# Altium footprint library cf1961aa503ff0dccd933ce7e329bd49_408f2f55965c2cfac43d2e67a2621ab7_8.pcblib: 74 footprints (part 2 of 5)
Each footprint in its own frame and in the unit in brackets; x right, y up, seen from the top. Pads: shape width x height; smd on the part's side, far side on the other; paste and mask are expansions set on the pad; w line width, h text height; cw(c..) or ccw(c..) is an arc to the next point about the centre after c.
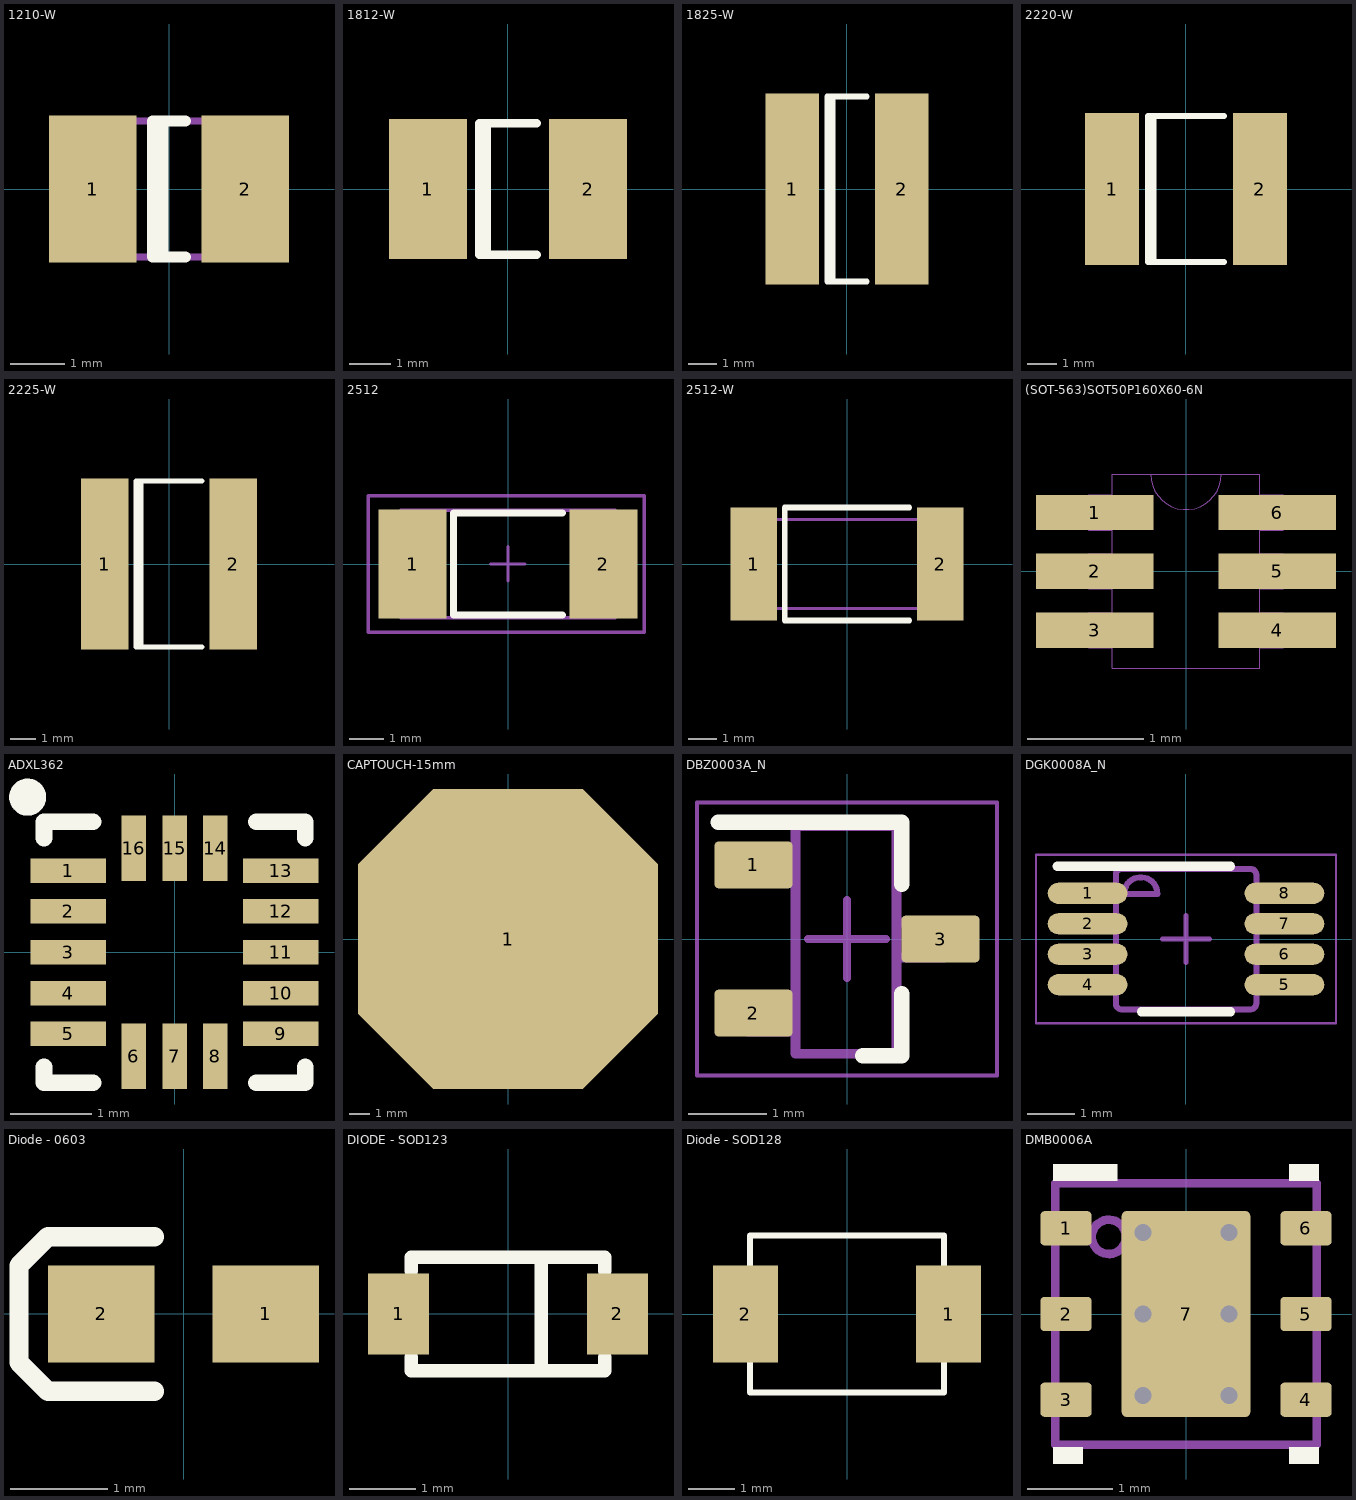
[diagram p1: the footprints below, top view; thin cyan lines are the x and y axes]

## 1210-W [mm] "Chip Capacitor; Body 3.2 x 2.5 mm (LxW typ)"
height 1.7
pads (2):
  rect 1.6x2.7 smd: 1(-1.4,0) 2(1.4,0)
Top Overlay:
  lines w0.2: -0.11,-1.25 -0.11,1.25 ; 0.3,-1.25 -0.3,-1.25 -0.3,1.25 0.3,1.25
Mechanical 13:
  lines w0.127: -1.6,-1.25 1.6,-1.25 1.6,1.25 -1.6,1.25 -1.6,-1.25
3D body: height 2.5, standoff 0, extent -1.6,-1.25 1.6,1.25

## 1812-W [mm] "Chip Capacitor; Body 4.5 x 3.2 mm (LxW typ)"
height 1.7
pads (2):
  rect 1.9x3.4 smd: 1(-1.95,0) 2(1.95,0)
Top Overlay:
  lines w0.2: -0.51,-1.6 -0.51,1.6 ; 0.7,-1.6 -0.7,-1.6 -0.7,1.6 0.7,1.6

## 1825-W [mm] "Chip Capacitor; Body 4.5 x 6.4 mm (LxW typ)"
height 1.7
pads (2):
  rect 1.9x6.8 smd: 1(-1.95,0) 2(1.95,0)
Top Overlay:
  lines w0.2: -0.51,-3.3 -0.51,3.3 ; 0.7,-3.3 -0.7,-3.3 -0.7,3.3 0.7,3.3

## 2220-W [mm] "Chip Capacitor; Body 5.7 x 5.0 mm (LxW typ)"
height 1.8
pads (2):
  rect 1.85x5.2 smd: 1(-2.525,0) 2(2.525,0)
Top Overlay:
  lines w0.2: -1.11,-2.5 -1.11,2.5 ; 1.3,-2.5 -1.3,-2.5 -1.3,2.5 1.3,2.5

## 2225-W [mm] "Chip Capacitor; Body 5.6 x 6.4 mm (LxW typ)"
height 2
pads (2):
  rect 1.9x6.8 smd: 1(-2.55,0) 2(2.55,0)
Top Overlay:
  lines w0.2: -1.11,-3.3 -1.11,3.3 ; 1.3,-3.3 -1.3,-3.3 -1.3,3.3 1.3,3.3

## 2512 [mm] "Chip Capacitor, Body 2.54x1.27mm, IPC Low Density"
height 0.6
pads (2):
  rect 2x3.2 smd: 1(-2.8,0) 2(2.8,0)
Top Overlay:
  lines w0.2: 1.6,-1.5 -1.6,-1.5 -1.6,1.5 1.6,1.5
Mechanical 13:
  lines w0.1: -3.15,-1.575 -3.15,1.575 3.15,1.575 3.15,-1.575 -3.15,-1.575
Mechanical 15:
  lines w0.1: -0.5,0 0.5,0 ; 0,-0.5 0,0.5 ; -4.1,-2 -4.1,2 4,2 4,-2 -4.1,-2
3D body: height 0.6, standoff 0, extent -3.15,-1.575 3.15,1.575

## 2512-W [mil]
height 82.68
pads (2):
  rect 65x158 smd: 1(-130,0) 2(130,0)
Top Overlay:
  lines w7.87: 86.54,-78.74 -86.69,-78.74 -86.69,78.74 86.54,78.74
Mechanical 13:
  lines w3.94: -124.01,-62 -124.01,62.01 124.02,62.01 124.02,-62 -124.01,-62
3D body: height 23.62, standoff 0, extent -124.01,-62 124.02,62.01

## (SOT-563)SOT50P160X60-6N [mil]
pads (6):
  rect 40x12 smd: 1(-31,20) 2(-31,0) 3(-31,-20) 4(31,-20) 5(31,0) 6(31,20)
Mechanical 13:
  lines w0: -25,-26 -25,-33 25,-33 25,-26 ; -25,-26 -25,-14 ; -25,-26 -33,-26 -33,-14 -25,-14 ; -25,-14 -25,-6 ; -25,-6 -25,6 ; -25,-6 -33,-6 -33,6 -25,6 ; -25,6 -25,14 ; -25,14 -25,26 ; -25,14 -33,14 -33,26 -25,26 ; -25,26 -25,33 -12,33 ; -12,33 ccw(c0,33) 12,33 ; -12,33 12,33 ; 12,33 25,33 25,26 ; 25,-26 25,-14 ; 25,-26 33,-26 33,-14 25,-14 ; 25,-14 25,-6 ; 25,-6 25,6 ; 25,-6 33,-6 33,6 25,6 ; 25,6 25,14 ; 25,14 25,26 ; 25,14 33,14 33,26 25,26

## ADXL362 [mm]
pads (16):
  rect 0.925x0.3 smd: 1(-1.3,1) 2(-1.3,0.5) 3(-1.3,0) 4(-1.3,-0.5) 5(-1.3,-1) 9(1.3,-1) 10(1.3,-0.5) 11(1.3,0) 12(1.3,0.5) 13(1.3,1)
  rect 0.3x0.8 smd: 6(-0.5,-1.275) 7(0,-1.275) 8(0.5,-1.275) 14(0.5,1.275) 15(0,1.275) 16(-0.5,1.275)
Top Overlay:
  circle w0.254: c-1.8,1.9 r0.1
  lines w0.203: -1.6,-1.4 -1.6,-1.6 -1,-1.6 ; -1.6,1.4 -1.6,1.6 -1,1.6 ; 1,-1.6 1.6,-1.6 1.6,-1.4 ; 1,1.6 1.6,1.6 1.6,1.4
Mechanical 13:
  text ".Designator" at -0.6,-0.075 h0.38
3D body: height 1.14, standoff 0, extent -1.5,-1.5 1.5,1.5

## CAPTOUCH-15mm [mm]
pads (1):
  oct 15x15 smd: 1(0,0)

## DBZ0003A_N [mm] "SOT23, 3-Leads, Body 2.9x1.3mm, Pitch 0.95mm, Lead Span 2.4mm, IPC Medium Density"
height 1.12
pads (3):
  rrect17% 1x0.6 smd: 1(-1.2,0.95) 2(-1.2,-0.95) 3(1.2,0)
Top Overlay:
  lines w0.2: -1.651,1.5 0.7,1.5 0.7,0.7 ; 0.2,-1.5 0.7,-1.5 0.7,-0.7
Mechanical 5:
  lines w0.127: -1.27,-1.187 -1.063,-1.187 -1.005,-1.187 -0.814,-1.187 -0.66,-1.187 -0.66,-0.743 -0.814,-0.743 -1.005,-0.743 -1.063,-0.743 -1.27,-0.743 -1.27,-1.187 ; -1.27,0.718 -1.063,0.718 -1.005,0.718 -0.814,0.718 -0.66,0.718 -0.66,1.162 -0.814,1.162 -1.005,1.162 -1.063,1.162 -1.27,1.162 -1.27,0.718 ; -0.66,-1.473 0.635,-1.473 0.635,1.448 -0.66,1.448 -0.66,-1.473 ; 0.635,-0.235 0.635,0.21 0.789,0.21 0.98,0.21 1.037,0.21 1.245,0.21 1.245,-0.235 1.037,-0.235 0.98,-0.235 0.789,-0.235 0.635,-0.235
  text ".Designator" at -0.254,0.381 h0.51
Mechanical 15:
  lines w0.05: -1.925,-1.75 -1.925,1.75 1.925,1.75 1.925,-1.75 -1.925,-1.75
  lines w0.1: -0.5,0 0.5,0 ; 0,-0.5 0,0.5
3D body "DBZ0003A.stp": height 0.98, standoff 0, extent -1.257,-1.46 1.257,1.461

## DGK0008A_N [mm] "TSOP, 8-Leads, Body 3x3mm, Pitch 0.65mm, IPC Medium Density"
height 1.1
pads (8):
  oval 1.7x0.45 smd: 1(-2.1,0.975) 2(-2.1,0.325) 3(-2.1,-0.325) 4(-2.1,-0.975) 5(2.1,-0.975) 6(2.1,-0.325) 7(2.1,0.325) 8(2.1,0.975)
Top Overlay:
  lines w0.2: -2.75,1.55 0.95,1.55 ; -0.95,-1.55 0.95,-1.55
Mechanical 5:
  lines w0.127: -2.45,-1.131 -2.21,-1.131 -2.091,-1.131 -2.087,-1.131 -1.784,-1.131 -1.498,-1.131 -1.498,-0.826 -1.784,-0.826 -2.087,-0.826 -2.091,-0.826 -2.21,-0.826 -2.45,-0.826 -2.45,-1.131 ; -2.45,-0.48 -2.21,-0.48 -2.091,-0.48 -2.087,-0.48 -1.784,-0.48 -1.498,-0.48 -1.498,-0.175 -1.784,-0.175 -2.087,-0.175 -2.091,-0.175 -2.21,-0.175 -2.45,-0.175 -2.45,-0.48 ; -2.45,0.17 -2.21,0.17 -2.091,0.17 -2.087,0.17 -1.784,0.17 -1.498,0.17 -1.498,0.475 -1.784,0.475 -2.087,0.475 -2.091,0.475 -2.21,0.475 -2.45,0.475 -2.45,0.17 ; -2.45,0.82 -2.21,0.82 -2.091,0.82 -2.087,0.82 -1.784,0.82 -1.498,0.82 -1.498,1.125 -1.784,1.125 -2.087,1.125 -2.091,1.125 -2.21,1.125 -2.45,1.125 -2.45,0.82 ; -1.497,-1.377 ccw(c-1.37,-1.374) -1.373,-1.501 -1.371,-1.501 1.373,-1.501 1.375,-1.501 ccw(c1.373,-1.374) 1.5,-1.377 1.5,-1.374 1.5,1.369 1.5,1.372 ccw(c1.373,1.369) 1.375,1.496 1.373,1.496 -1.371,1.496 -1.373,1.496 ccw(c-1.37,1.369) -1.497,1.372 -1.498,1.369 -1.498,-1.374 -1.497,-1.377 ; -1.32,0.962 cw(c-0.964,0.962) -0.609,0.962 -1.32,0.962 ; 1.5,-1.131 1.5,-0.826 1.786,-0.826 2.089,-0.826 2.093,-0.826 2.213,-0.826 2.452,-0.826 2.452,-1.131 2.213,-1.131 2.093,-1.131 2.089,-1.131 1.786,-1.131 1.5,-1.131 ; 1.5,-0.48 1.5,-0.175 1.786,-0.175 2.089,-0.175 2.093,-0.175 2.213,-0.175 2.452,-0.175 2.452,-0.48 2.213,-0.48 2.093,-0.48 2.089,-0.48 1.786,-0.48 1.5,-0.48 ; 1.5,0.17 1.5,0.475 1.786,0.475 2.089,0.475 2.093,0.475 2.213,0.475 2.452,0.475 2.452,0.17 2.213,0.17 2.093,0.17 2.089,0.17 1.786,0.17 1.5,0.17 ; 1.5,0.82 1.5,1.125 1.786,1.125 2.089,1.125 2.093,1.125 2.213,1.125 2.452,1.125 2.452,0.82 2.213,0.82 2.093,0.82 2.089,0.82 1.786,0.82 1.5,0.82
  text ".Designator" at -0.381,0.508 h0.64
Mechanical 15:
  lines w0.05: -3.2,-1.8 -3.2,1.8 3.2,1.8 3.2,-1.8 -3.2,-1.8
  lines w0.1: -0.5,0 0.5,0 ; 0,-0.5 0,0.5
3D body "DGK0008AakaMUA08A.stp": height 0.94, standoff -0.02, extent -2.451,-1.499 2.451,1.499

## Diode - 0603 [mm] "Diode: Body 1.6 x 0.8 mm (LxW typ)"
height 0.87
pads (2):
  rect 1.1x1 smd: 1(0.85,0) 2(-0.85,0)
Top Overlay:
  lines w0.2: -0.3,-0.8 -1.4,-0.8 -1.7,-0.5 -1.7,0.4 -1.7,0.5 -1.4,0.8 -0.3,0.8

## DIODE - SOD123 [mil] "SOD-123; 2 Leads; Body 2.7 x 1.6 mm, (LxW)"
height 53.15
pads (2):
  rect 36x48 smd: 1(-64.5,0) 2(64.5,0)
Top Overlay:
  lines w7.87: -57.09,-25.59 -57.09,-33.46 57.09,-33.46 57.09,-25.59 ; -57.09,25.59 -57.09,33.46 57.09,33.46 57.09,25.59 ; 19.68,-33.46 19.68,33.46
3D body: height 90.55, standoff 0, extent -57.09,-33.46 57.09,33.46

## Diode - SOD128 [mm] "Diode: Body 1.6 x 0.8 mm (LxW typ)"
height 0.87
pads (2):
  rect 1.4x2.1 smd: 1(2.2,0) 2(-2.2,0)
Top Overlay:
  lines w0.127: -2.1,-1.7 -2.1,1.7 2.1,1.7 2.1,-1.7 -2.1,-1.7
3D body "SOD-128.STEP": height 1.11, standoff 0, extent -2.6,-1.35 2.6,1.35

## DMB0006A [mm] "TI"
height 0.8
pads (7):
  rrect25% 0.6x0.4 smd: 1(-1.4,1) 2(-1.4,0) 3(-1.4,-1) 4(1.4,-1) 5(1.4,0) 6(1.4,1)
  rrect7% 1.5x2.4 smd paste-0.75: 7(0,0)
via -0.5,0 diameter 0.5 hole 0.2
via 0.5,0 diameter 0.5 hole 0.2
via -0.5,0.95 diameter 0.5 hole 0.2
via 0.5,0.95 diameter 0.5 hole 0.2
via -0.5,-0.95 diameter 0.5 hole 0.2
via 0.5,-0.95 diameter 0.5 hole 0.2
Top Overlay:
  rectangle: -1.55,1.55 -0.8,1.75
  rectangle: 1.2,1.55 1.55,1.75
  rectangle: 1.2,-1.75 1.55,-1.55
  rectangle: -1.55,-1.75 -1.2,-1.55
Top Paste:
  rectangle: -0.69,0.1 0.69,1.16
  rectangle: -0.69,-1.16 0.69,-0.1
Mechanical 5:
  circle w0.1: c-0.9,0.9 r0.2
  lines w0.1: -1.525,-1.525 1.525,-1.525 1.525,1.525 -1.525,1.525 -1.525,-1.525
  text ".Designator" at 0.635,0.254 h0.75
3D body "DMB0006A.stp": height 0.81, standoff 0.01, extent -1.5,-1.5 1.5,1.5